# EAGLE library part MC14543BDG (library PAS)
Encoders, Decoders, Multiplexers & Demultiplexers CMOS BCD-7-Seg Latch Decoder/Dr On Semi
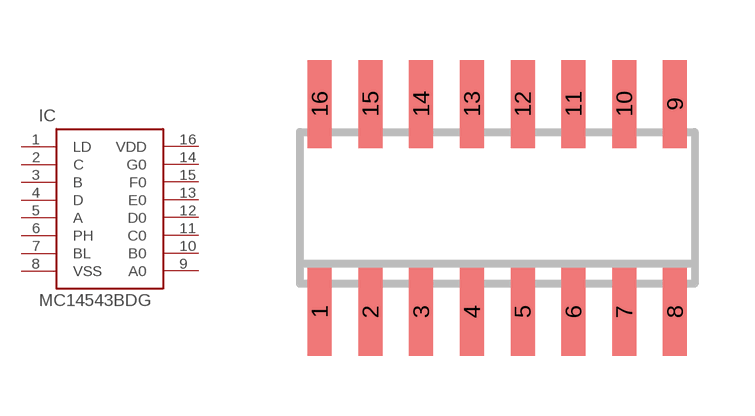
[diagram p15: symbol with the pads of SO16; footprint SO16]

Designator prefix IC

## MC14543BDG  [SO16]
1  LD  pas
2  C  pas
3  B  pas
4  D  pas
5  A  pas
6  PH  pas
7  BL  pas
8  VSS  pas
9  A0  pas
10  B0  pas
11  C0  pas
12  D0  pas
13  E0  pas
14  G0  pas
15  F0  pas
16  VDD  pas

## Footprint SO16 (pad centres in mm)
SMALL OUTLINE INTEGRATED CIRCUIT body 3.9 mm/JEDEC MS-012AC
smd 0.6 x 2.2: 1 -4.445,-2.6; 2 -3.175,-2.6; 3 -1.905,-2.6; 4 -0.635,-2.6; 5 0.635,-2.6; 6 1.905,-2.6; 7 3.175,-2.6; 8 4.445,-2.6; 9 4.445,2.6; 10 3.175,2.6; 11 1.905,2.6; 12 0.635,2.6; 13 -0.635,2.6; 14 -1.905,2.6; 15 -3.175,2.6; 16 -4.445,2.6